# Altium footprint library PAsystem.PCBLIB: 8 footprints
Each footprint in its own frame and in the unit in brackets; x right, y up, seen from the top. Pads: shape width x height; smd on the part's side, far side on the other; paste and mask are expansions set on the pad; w line width, h text height; cw(c..) or ccw(c..) is an arc to the next point about the centre after c.
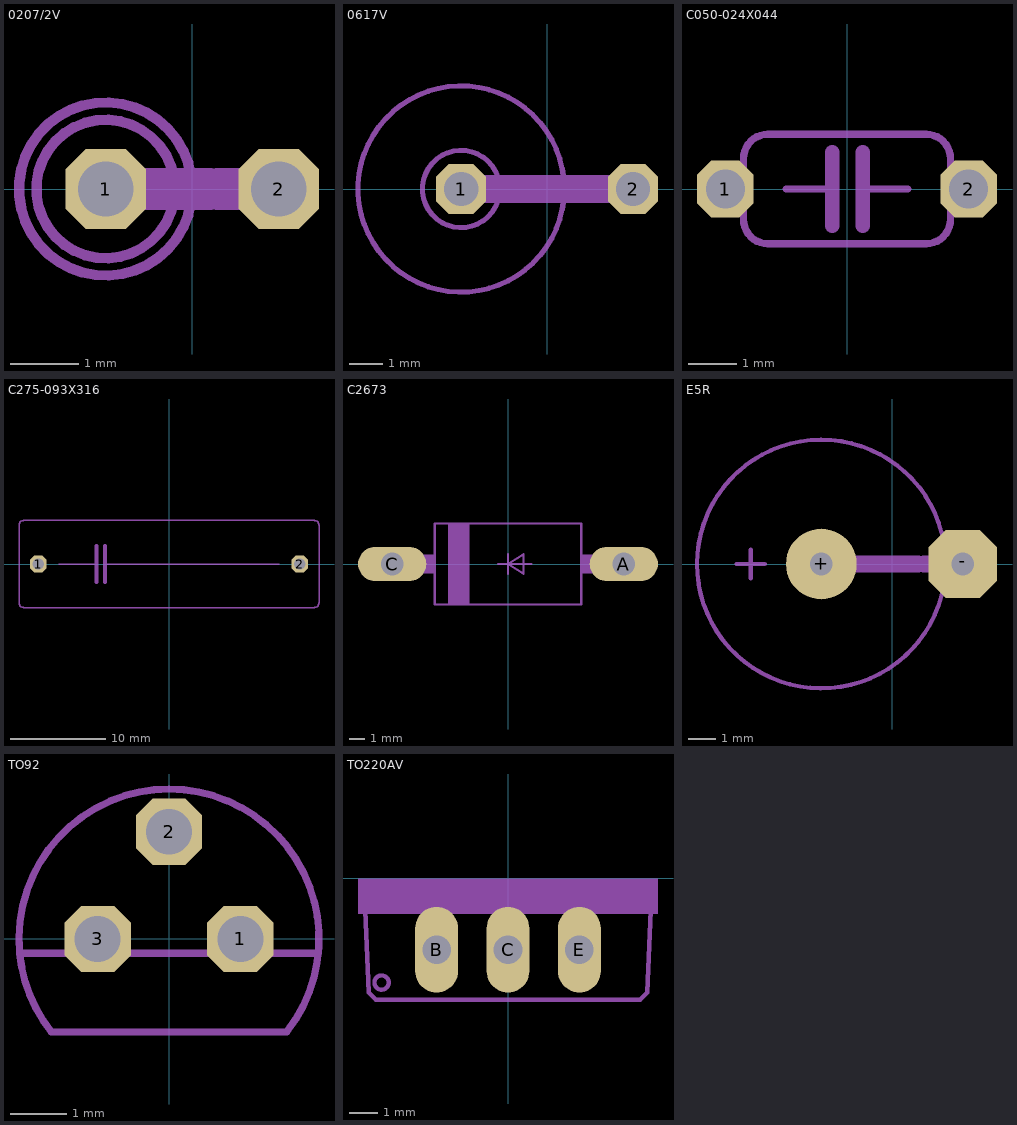
[diagram p0: the footprints below, top view; thin cyan lines are the x and y axes]

## 0207/2V [mil]
pads (2):
  oct 46.48x46.48 hole 32: 1(-50,0) 2(50,0)
Mechanical 2:
  circle w6: c-50,0 r50
  lines w24: -10,0 10,0
Mechanical 18:
  circle w6: c-50,0 r40
  lines w24: -50,0 -15,0 ; 15,0 50,0

## 0617V [mil]
pads (2):
  oct 58.09x58.09 hole 40: 1(-100,0) 2(100,0)
Mechanical 2:
  circle w6: c-100,0 r120
  rectangle: -52,-16 52,16
Mechanical 18:
  circle w6: c-100,0 r45
  lines w32: -100,0 -50,0 ; 50,0 100,0

## C050-024X044 [mil]
pads (2):
  oct 46.48x46.48 hole 32: 1(-100,0) 2(100,0)
Mechanical 2:
  lines w6: -85,-25 ccw(c-65,-25) -65,-45 65,-45 ccw(c65,-25) 85,-25 ; -85,25 cw(c-65,25) -65,45 65,45 cw(c65,25) 85,25 ; -50,0 -12,0 ; 13,0 50,0
  lines w12: -12,-30 -12,0 -12,30 ; 13,-30 13,0 13,30
Mechanical 18:
  rectangle: 85,-15 100,15
  rectangle: -100,-15 -85,15
  lines w6: -85,-25 -85,25 ; 85,-25 85,25

## C275-093X316 [mil]
pads (2):
  oct 68.26x68.26 hole 47: 1(-540,0) 2(540,0)
Mechanical 2:
  lines w6: -455,0 -300,0 ; -265,0 455,0 ; -620,-160 -620,160 cw(c-600,160) -600,180 600,180 cw(c600,160) 620,160 620,-160 cw(c600,-160) 600,-180 -600,-180 cw(c-600,-160) -620,-160
  lines w16: -300,-75 -300,0 -300,75 ; -265,-75 -265,0 -265,75

## C2673 [mil]
pads (2):
  oval 177x88.5 hole 59: A(300,0) C(-300,0)
Mechanical 2:
  rectangle: -155,-105 -100,105
  rectangle: 190,-25 235,25
  rectangle: -235,-25 -190,25
  lines w6: -25,0 0,0 ; 0,-25 0,0 ; 0,25 0,0 ; 60,0 0,0 ; 0,0 40,-25 40,25 0,0 ; -190,-105 190,-105 190,105 -190,105 -190,-105
Mechanical 18:
  lines w50: -300,0 -240,0 ; 240,0 300,0

## E5R [mil]
pads (2):
  round 100 hole 32: +(-100,0)
  oct 96.82x96.82 hole 32: -(100,0)
Mechanical 2:
  lines w6: -220,0 -180,0 ; -200,-20 -200,20 ; 70,-45 cw(c-100,0) 70.16,44.39
  lines w24: -35,0 37,0
Mechanical 18:
  lines w6: 69.81,45.72 cw(c-100,0) 70,-45
  lines w24: -100,0 -40,0 ; 45,0 100,0

## TO92 [mil]
pads (3):
  oct 46.48x46.48 hole 32: 1(50,0) 2(0,75) 3(-50,0)
Mechanical 2:
  lines w5: -88.73,-10 -104.52,-10 ; -30.96,100.33 ccw(c0,0) -104.52,-10 ; -11.27,-10 11.27,-10 ; 30.96,100.33 cw(c0,0) 82.46,-65 -82.46,-65 cw(c0,0) -104.52,-10 ; 88.73,-10 104.52,-10
Mechanical 18:
  lines w5: -88.73,-10 -11.27,-10 ; -30.96,100.33 cw(c0,-0.02) 30.96,100.33 ; 11.27,-10 88.73,-10

## TO220AV [mil]
pads (3):
  oval 60x120 hole 40: B(-100,-100) C(0,-100) E(100,-100)
Mechanical 2:
  circle w6: c-177,-146 r10
  rectangle: -210,-30 210,0
  rectangle: -210,-50 -135,-30
  rectangle: -65,-50 -35,-30
  rectangle: 35,-50 65,-30
  rectangle: 135,-50 210,-30
  lines w6: -200,-45 -195,-160 -185,-170 185,-170 195,-160 200,-45
Mechanical 18:
  rectangle: -135,-50 -65,-30
  rectangle: -35,-50 35,-30
  rectangle: 65,-50 135,-30